# Altium footprint library RS-7.PcbLib: 1 footprints
Each footprint in its own frame and in the unit in brackets; x right, y up, seen from the top. Pads: shape width x height; smd on the part's side, far side on the other; paste and mask are expansions set on the pad; w line width, h text height; cw(c..) or ccw(c..) is an arc to the next point about the centre after c.
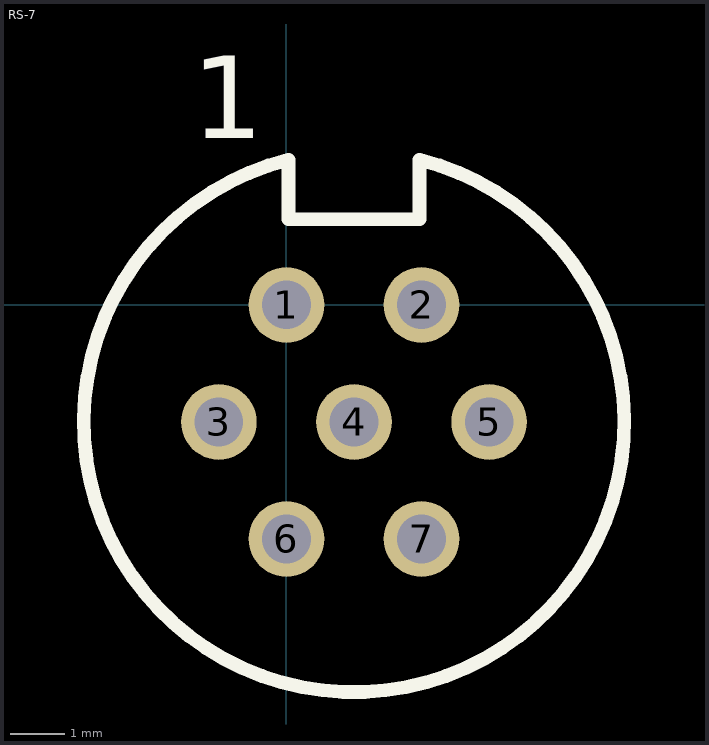
[diagram p0: the footprint, top view; thin cyan lines are the x and y axes]

## RS-7 [mm]
pads (7):
  round 1.4 hole 0.9: 1(0,0) 2(2.5,0) 3(-1.25,-2.165) 4(1.25,-2.165) 5(3.75,-2.165) 6(0,-4.33) 7(2.5,-4.33)
Top Overlay:
  lines w0.254: 0.037,1.585 0.037,2.686 ccw(c1.25,-2.165) 2.463,2.686 2.463,1.585 0.037,1.585
  text "1" at -1.75,3.085 h1.52